# EAGLE library part 750032050 (library WE-PP_TRANSFORMER)
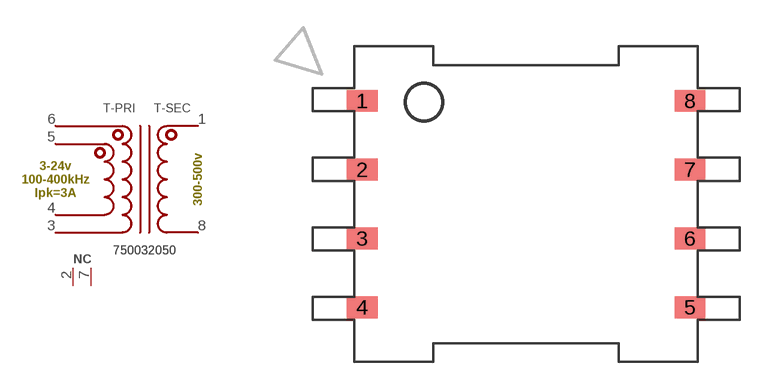
[diagram p3: symbol with the pads of 750032050; footprint 750032050]

Designator prefix T; gates -PRI=750032050-PRI -SEC=750032050-SEC

## 750032050 (MARK: 32050; MF: Würth Electronik; MPN: 750032050)  [750032050]
1  -SEC:SEC-1
2  -PRI:NC1
3  -PRI:PRIA-2
4  -PRI:PRIB-2
5  -PRI:PRIB-1
6  -PRI:PRIA-1
7  -PRI:NC2
8  -SEC:SEC-2

## Footprint 750032050 (pad centres in mm)
smd 1.65 x 1.17: 1 -8.825,5.565; 2 -8.825,1.855; 3 -8.825,-1.855; 4 -8.825,-5.565; 5 8.825,-5.565; 6 8.825,-1.855; 7 8.825,1.855; 8 8.825,5.565